# Altium footprint library D.PcbLib: 22 footprints (part 1 of 2)
Each footprint in its own frame and in the unit in brackets; x right, y up, seen from the top. Pads: shape width x height; smd on the part's side, far side on the other; paste and mask are expansions set on the pad; w line width, h text height; cw(c..) or ccw(c..) is an arc to the next point about the centre after c.
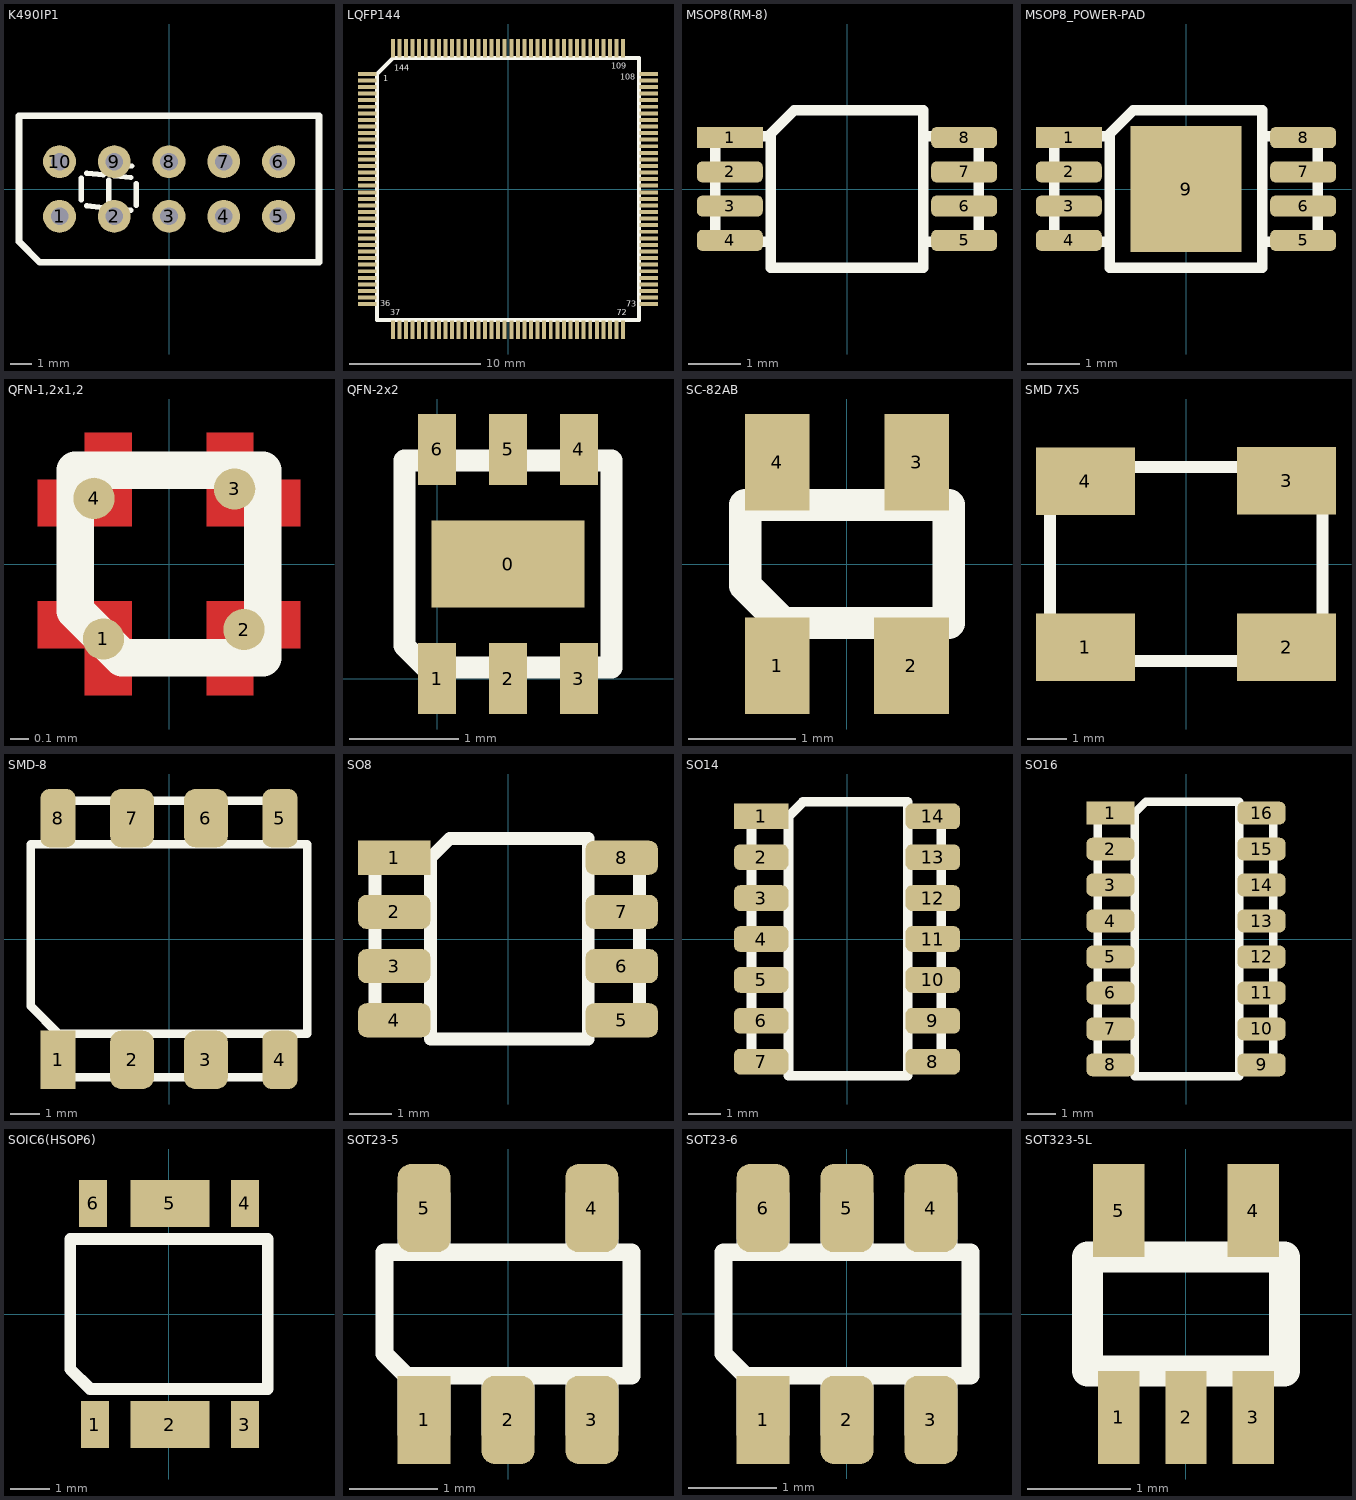
[diagram p0: the footprints below, top view; thin cyan lines are the x and y axes]

## K490IP1 [mm]
height 10
pads (10):
  round 1.5 hole 0.8: 1(-5,-1.25) 2(-2.5,-1.25) 3(0,-1.25) 4(2.5,-1.25) 5(5,-1.25) 6(5,1.25) 7(2.5,1.25) 8(0,1.25) 9(-2.5,1.25) 10(-5,1.25)
Top Overlay:
  lines w0.25: -4,-0.5 -4,0.5 ; -3.75,-0.775 -3,-0.85 ; -3.75,0.725 -3,0.65 ; -2.75,-0.6 -2.75,0.4 ; -2.5,-0.9 -1.75,-0.975 ; -2.5,0.6 -1.75,0.525 ; -1.83,1.06 -1.7,1.05 ; -1.5,-0.75 -1.5,0.25
  lines w0.3: -6.85,-2.4 -5.9,-3.35 6.85,-3.35 6.85,3.35 -6.85,3.35 -6.85,-2.4
3D body: height 8.4, standoff -1.5, extent -7,-3.5 7,3.5

## LQFP144 [mm]
height 1.6
pads (144):
  rect 1.4x0.3 smd: 1(-10.7,8.75) 2(-10.7,8.25) 3(-10.7,7.75) 4(-10.7,7.25) 5(-10.7,6.75) 6(-10.7,6.25) 7(-10.7,5.75) 8(-10.7,5.25) 9(-10.7,4.75) 10(-10.7,4.25) 11(-10.7,3.75) 12(-10.7,3.25) 13(-10.7,2.75) 14(-10.7,2.25) 15(-10.7,1.75) 16(-10.7,1.25) 17(-10.7,0.75) 18(-10.7,0.25) 19(-10.7,-0.25) 20(-10.7,-0.75) 21(-10.7,-1.25) 22(-10.7,-1.75) 23(-10.7,-2.25) 24(-10.7,-2.75) 25(-10.7,-3.25) 26(-10.7,-3.75) 27(-10.7,-4.25) 28(-10.7,-4.75) 29(-10.7,-5.25) 30(-10.7,-5.75) 31(-10.7,-6.25) 32(-10.7,-6.75) 33(-10.7,-7.25) 34(-10.7,-7.75) 35(-10.7,-8.25) 36(-10.7,-8.75) 73(10.7,-8.75) 74(10.7,-8.25) 75(10.7,-7.75) 76(10.7,-7.25) 77(10.7,-6.75) 78(10.7,-6.25) 79(10.7,-5.75) 80(10.7,-5.25) 81(10.7,-4.75) 82(10.7,-4.25) 83(10.7,-3.75) 84(10.7,-3.25) 85(10.7,-2.75) 86(10.7,-2.25) 87(10.7,-1.75) 88(10.7,-1.25) 89(10.7,-0.75) 90(10.7,-0.25) 91(10.7,0.25) 92(10.7,0.75) 93(10.7,1.25) 94(10.7,1.75) 95(10.7,2.25) 96(10.7,2.75) 97(10.7,3.25) 98(10.7,3.75) 99(10.7,4.25) 100(10.7,4.75) 101(10.7,5.25) 102(10.7,5.75) 103(10.7,6.25) 104(10.7,6.75) 105(10.7,7.25) 106(10.7,7.75) 107(10.7,8.25) 108(10.7,8.75)
  rect 0.3x1.4 smd: 37(-8.75,-10.7) 38(-8.25,-10.7) 39(-7.75,-10.7) 40(-7.25,-10.7) 41(-6.75,-10.7) 42(-6.25,-10.7) 43(-5.75,-10.7) 44(-5.25,-10.7) 45(-4.75,-10.7) 46(-4.25,-10.7) 47(-3.75,-10.7) 48(-3.25,-10.7) 49(-2.75,-10.7) 50(-2.25,-10.7) 51(-1.75,-10.7) 52(-1.25,-10.7) 53(-0.75,-10.7) 54(-0.25,-10.7) 55(0.25,-10.7) 56(0.75,-10.7) 57(1.25,-10.7) 58(1.75,-10.7) 59(2.25,-10.7) 60(2.75,-10.7) 61(3.25,-10.7) 62(3.75,-10.7) 63(4.25,-10.7) 64(4.75,-10.7) 65(5.25,-10.7) 66(5.75,-10.7) 67(6.25,-10.7) 68(6.75,-10.7) 69(7.25,-10.7) 70(7.75,-10.7) 71(8.25,-10.7) 72(8.75,-10.7) 109(8.75,10.7) 110(8.25,10.7) 111(7.75,10.7) 112(7.25,10.7) 113(6.75,10.7) 114(6.25,10.7) 115(5.75,10.7) 116(5.25,10.7) 117(4.75,10.7) 118(4.25,10.7) 119(3.75,10.7) 120(3.25,10.7) 121(2.75,10.7) 122(2.25,10.7) 123(1.75,10.7) 124(1.25,10.7) 125(0.75,10.7) 126(0.25,10.7) 127(-0.25,10.7) 128(-0.75,10.7) 129(-1.25,10.7) 130(-1.75,10.7) 131(-2.25,10.7) 132(-2.75,10.7) 133(-3.25,10.7) 134(-3.75,10.7) 135(-4.25,10.7) 136(-4.75,10.7) 137(-5.25,10.7) 138(-5.75,10.7) 139(-6.25,10.7) 140(-6.75,10.7) 141(-7.25,10.7) 142(-7.75,10.7) 143(-8.25,10.7) 144(-8.75,10.7)
Top Overlay:
  lines w0.3: -9.95,-9.95 -9.95,8.75 -8.75,9.95 9.95,9.95 9.95,-9.95 -9.95,-9.95
  text "144" at -8.65,9 h0.44
  text "1" at -9.5,8.2 h0.44
  text "109" at 7.85,9.15 h0.44
  text "108" at 8.55,8.3 h0.44
  text "73" at 8.994,-8.962 h0.44
  text "72" at 8.25,-9.6 h0.44
  text "37" at -8.95,-9.6 h0.44
  text "36" at -9.7,-8.9 h0.44
3D body: height 1.6, standoff 0, extent -11.1,-11.1 11.1,11.1

## MSOP8(RM-8) [mm]
height 1.1
pads (8):
  rect 1.25x0.4 smd: 1(-2.225,0.975)
  rrect50% 1.25x0.4 smd: 2(-2.225,0.325) 3(-2.225,-0.325) 4(-2.225,-0.975) 5(2.225,-0.975) 6(2.225,-0.325) 7(2.225,0.325) 8(2.225,0.975)
Top Overlay:
  lines w0.2: -1.5,-1 -2.5,-1 -2.5,1 -1.5,1 ; 1.5,-1 2.5,-1 2.5,1 1.5,1 ; -1.45,-1.5 -1.45,1.05 -1,1.5 1.45,1.5 1.45,-1.5 -1.45,-1.5
3D body: height 1, standoff 0, extent -2.6,-1.6 2.6,1.6

## MSOP8_POWER-PAD [mm]
height 1.1
pads (9):
  rect 1.25x0.4 smd: 1(-2.225,0.975)
  rrect50% 1.25x0.4 smd: 2(-2.225,0.325) 3(-2.225,-0.325) 4(-2.225,-0.975) 5(2.225,-0.975) 6(2.225,-0.325) 7(2.225,0.325) 8(2.225,0.975)
  rect 2.1x2.4 smd: 9(0,0)
Top Overlay:
  lines w0.2: -1.5,-1 -2.5,-1 -2.5,1 -1.5,1 ; 1.5,-1 2.5,-1 2.5,1 1.5,1 ; -1.45,-1.5 -1.45,1.05 -1,1.5 1.45,1.5 1.45,-1.5 -1.45,-1.5
3D body: height 1.1, standoff 0, extent -2.6,-1.6 2.6,1.6

## QFN-1,2x1,2 [mm]
height 0.6
pads (4):
  round 0.22 smd mask+0: 1(-0.35,-0.4) 2(0.4,-0.35) 3(0.35,0.4)
  round 0.22 smd paste+0 mask+0: 4(-0.4,0.35)
Top Layer:
  region: 0.7,-0.45 0.7,-0.2 0.2,-0.2 0.2,-0.7 0.45,-0.7 0.45,-0.45
  region: -0.45,-0.7 -0.2,-0.7 -0.2,-0.2 -0.7,-0.2 -0.7,-0.45 -0.45,-0.45
  region: 0.45,0.7 0.2,0.7 0.2,0.2 0.7,0.2 0.7,0.45 0.45,0.45
  region: -0.7,0.45 -0.7,0.2 -0.2,0.2 -0.2,0.7 -0.45,0.7 -0.45,0.45
Top Overlay:
  lines w0.2: -0.5,-0.25 -0.5,0.5 0.5,0.5 0.5,-0.5 -0.25,-0.5 -0.5,-0.25
Top Solder:
  region: 0.55,0.8 0.1,0.8 0.1,0.1 0.8,0.1 0.8,0.55 0.55,0.55
  region: 0.8,-0.55 0.8,-0.1 0.1,-0.1 0.1,-0.8 0.45,-0.8 0.45,-0.55
  region: -0.55,-0.8 -0.1,-0.8 -0.1,-0.1 -0.8,-0.1 -0.8,-0.55 -0.55,-0.55
  region: -0.8,0.55 -0.8,0.1 -0.1,0.1 -0.1,0.8 -0.55,0.8 -0.55,0.55
3D body: height 0.6, standoff -0.05, extent -0.6,-0.6 0.6,0.6

## QFN-2x2 [mm]
height 0.8
pads (7):
  rect 1.4x0.8 smd mask+0.1: 0(0.65,1.05)
  rect 0.35x0.65 smd mask+0.1: 1(0,0) 2(0.65,0) 3(1.3,0) 4(1.3,2.1) 5(0.65,2.1) 6(0,2.1)
Top Overlay:
  lines w0.2: -0.3,0.3 -0.3,2 1.6,2 1.6,0.1 -0.1,0.1 -0.3,0.3
3D body: height 0.75, standoff -0.05, extent -0.4,0 1.7,2.1

## SC-82AB [mm]
height 1.1
pads (4):
  rect 0.6x0.9 smd: 1(-0.65,-0.95) 3(0.65,0.95) 4(-0.65,0.95)
  rect 0.7x0.9 smd: 2(0.6,-0.95)
Top Overlay:
  lines w0.3: -0.95,-0.2 -0.95,0.55 0.95,0.55 0.95,-0.55 -0.6,-0.55 -0.95,-0.2
3D body: height 1.1, standoff 0, extent -1.1,-1.2 1.1,1.2

## SMD 7X5 [mm]
height 1.8
pads (4):
  rect 2.5x1.7 smd: 1(-2.54,-2.1) 2(2.54,-2.1) 3(2.54,2.1) 4(-2.54,2.091)
Top Overlay:
  lines w0.3: -3.44,-1.75 -2.74,-2.45 3.45,-2.45 3.45,2.45 -3.44,2.45 -3.44,-1.75
3D body: height 1.8, standoff 0, extent -3.6,-2.6 3.6,2.6

## SMD-8 [mm]
height 3.4
pads (8):
  rect 1.2x2 smd: 1(-3.81,-4.15)
  rrect50% 1.5x2 smd: 2(-1.27,-4.15) 3(1.27,-4.15) 6(1.27,4.15) 7(-1.27,4.15)
  rrect50% 1.2x2 smd: 4(3.81,-4.15) 5(3.81,4.15) 8(-3.81,4.15)
Top Overlay:
  lines w0.3: -3.78,-3.25 4.75,-3.25 4.75,3.25 -4.75,3.25 -4.75,-2.3 -3.78,-3.27 -3.78,-4.75 3.82,-4.75 3.82,-3.35 ; -3.78,3.4 -3.78,4.75 3.82,4.75 3.82,3.4
3D body: height 3.4, standoff 0, extent -4.9,-4.9 4.9,4.9

## SO8 [mm]
height 1.75
pads (8):
  rect 1.7x0.8 smd mask+0.1: 1(-2.667,1.905)
  rrect50% 1.7x0.8 smd mask+0.1: 2(-2.667,0.635) 3(-2.667,-0.635) 4(-2.667,-1.905) 5(2.667,-1.905) 6(2.667,-0.635) 7(2.667,0.635) 8(2.667,1.905)
Top Overlay:
  lines w0.3: -1.817,-1.945 -3.117,-1.945 -3.117,1.905 -1.817,1.905 ; -1.817,-2.345 1.883,-2.345 1.883,-1.945 ; -1.817,-2.345 -1.817,-2.345 ; -1.817,-2.345 -1.817,1.905 ; -1.817,1.905 -1.367,2.355 1.883,2.355 1.883,1.905 ; 1.883,-1.945 3.083,-1.945 3.083,1.905 1.883,1.905 ; 1.883,-1.945 1.883,1.905
3D body: height 1.8, standoff 0, extent -3.117,-2.495 3.083,2.505

## SO14 [mm]
height 1.75
pads (14):
  rect 1.7x0.8 smd: 1(-2.667,3.81)
  rrect50% 1.7x0.8 smd: 2(-2.667,2.54) 3(-2.667,1.27) 4(-2.667,0) 5(-2.667,-1.27) 6(-2.667,-2.54) 7(-2.667,-3.81) 8(2.667,-3.81) 9(2.667,-2.54) 10(2.667,-1.27) 11(2.667,0) 12(2.667,1.27) 13(2.667,2.54) 14(2.667,3.81)
Top Overlay:
  lines w0.3: -1.817,-3.79 -2.967,-3.79 -2.967,3.81 -1.817,3.81 ; -1.817,3.81 -1.817,-4.25 1.883,-4.25 1.883,-3.79 ; -1.817,3.81 -1.367,4.26 1.883,4.26 1.883,3.81 ; 1.883,-3.79 1.883,3.81 ; 1.883,-3.79 2.933,-3.79 2.933,3.81 1.883,3.81
3D body: height 1.8, standoff 0, extent -3.117,-4.39 3.083,4.41

## SO16 [mm]
height 1.8
pads (16):
  rect 1.7x0.8 smd: 1(-2.667,4.445)
  rrect50% 1.7x0.8 smd: 2(-2.667,3.175) 3(-2.667,1.905) 4(-2.667,0.635) 5(-2.667,-0.635) 6(-2.667,-1.905) 7(-2.667,-3.175) 8(-2.667,-4.445) 9(2.667,-4.445) 10(2.667,-3.175) 11(2.667,-1.905) 12(2.667,-0.635) 13(2.667,0.635) 14(2.667,1.905) 15(2.667,3.175) 16(2.667,4.445)
Top Overlay:
  lines w0.3: -1.817,-4.445 -3.117,-4.445 -3.117,4.445 -1.817,4.445 ; 1.883,-3.175 1.883,-4.85 -1.817,-4.85 -1.817,4.445 ; -1.817,4.445 -1.412,4.85 1.883,4.85 1.883,4.445 ; 1.883,4.445 3.083,4.445 3.083,-4.445 1.883,-4.445 1.883,4.445
3D body: height 1.8, standoff 0, extent -3.1,-5 3.1,5

## SOIC6(HSOP6) [mm]
height 1.85
pads (6):
  rect 0.7x1.2 smd: 1(-1.875,-2.8) 3(1.925,-2.8) 4(1.925,2.8) 6(-1.925,2.8)
  rect 2x1.2 smd: 2(0.025,-2.8) 5(0.025,2.8)
Top Overlay:
  lines w0.3: -2.5,-1.4 -2,-1.9 2.5,-1.9 2.5,1.9 -2.5,1.9 -2.5,-1.4
3D body: height 1.85, standoff 0, extent -2.65,-3.15 2.65,3.15

## SOT23-5 [mm]
height 1.1
pads (5):
  rect 0.6x1 smd mask+0.1: 1(-0.95,-1.2)
  rrect50% 0.6x1 smd mask+0.1: 2(0,-1.2) 3(0.95,-1.2)
  rrect50% 0.6x1 smd: 4(0.95,1.2) 5(-0.95,1.2)
Top Overlay:
  lines w0.2: -1.15,0.7 -1.15,1.35 -0.75,1.35 -0.75,0.7 ; -0.75,-0.7 -0.75,-1.35 -1.15,-1.35 -1.15,-0.7 ; -0.2,-0.7 -0.2,-1.35 0.2,-1.35 0.2,-0.7 ; 0.75,-0.7 0.75,-1.35 1.15,-1.35 1.15,-0.7 ; 0.75,0.7 0.75,1.35 1.15,1.35 1.15,0.7 ; -1.15,-0.7 -1.4,-0.45 -1.4,0.7 1.4,0.7 1.4,-0.7 -1.15,-0.7
3D body: height 1.1, standoff 0, extent -1.5,-1.45 1.5,1.45

## SOT23-6 [mm]
height 1.1
pads (6):
  rect 0.6x1 smd mask+0.1: 1(-0.95,-1.2)
  rrect50% 0.6x1 smd mask+0.1: 2(0,-1.2) 3(0.95,-1.2) 4(0.95,1.2) 5(0,1.2) 6(-0.95,1.2)
Top Overlay:
  lines w0.2: -1.15,0.7 -1.15,1.35 -0.75,1.35 -0.75,0.7 ; -0.75,-0.7 -0.75,-1.35 -1.15,-1.35 -1.15,-0.7 ; -0.2,-0.7 -0.2,-1.35 0.2,-1.35 0.2,-0.7 ; -0.2,0.7 -0.2,1.35 0.2,1.35 0.2,0.7 ; 0.75,-0.7 0.75,-1.35 1.15,-1.35 1.15,-0.7 ; 0.75,0.7 0.75,1.35 1.15,1.35 1.15,0.7 ; -1.15,-0.7 -1.4,-0.45 -1.4,0.7 1.4,0.7 1.4,-0.7 -1.15,-0.7
3D body: height 1.25, standoff 0, extent -1.5,-1.45 1.5,1.45

## SOT323-5L [mm]
height 1.1
pads (5):
  rect 0.4x0.9 smd: 1(-0.65,-1) 2(0,-1) 3(0.65,-1)
  rect 0.5x0.9 smd: 4(0.65,1) 5(-0.65,1)
Top Overlay:
  lines w0.3: -0.95,-0.55 0.95,-0.55 0.95,0.55 -0.95,0.55 -0.95,-0.55
3D body: height 1.1, standoff 0, extent -1.097,-1.2 1.098,1.2